# EAGLE library part MT29F1G08ABAEAWP-IT_E_TR (library MT29F1G08ABAEAWP-IT_E_TR)
IC FLASH 1GBIT 20NS 48TSOP Source: Datasheet <http://e2e.ti.com/cfs-file/__key/communityserver-discussions-components-files/639/3005.MT29F1G08ABBEAH4E.pdf>
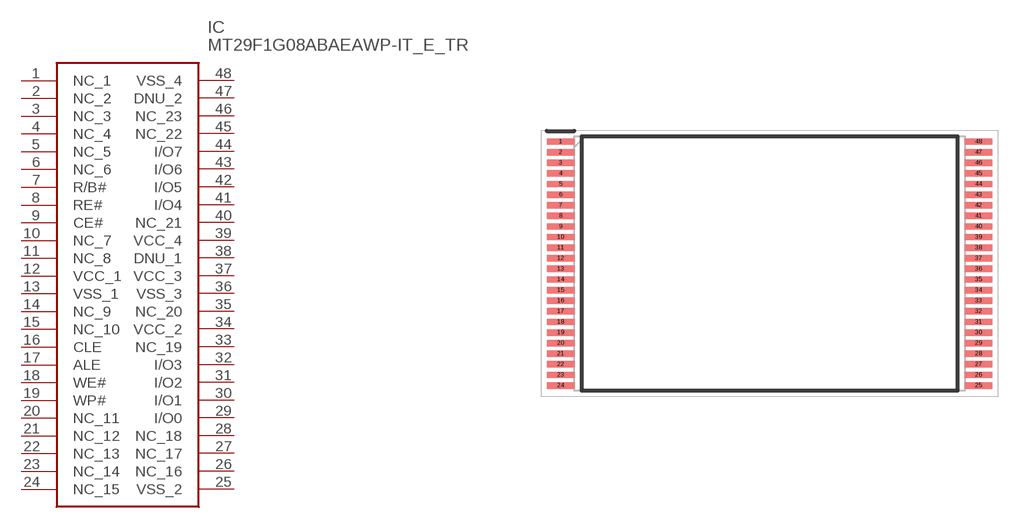
[diagram p0: symbol with the pads of SOP50P2000X120-48N; footprint SOP50P2000X120-48N]

Designator prefix IC

## MT29F1G08ABAEAWP-IT_E_TR (Description: IC FLASH 1GBIT 20NS 48TSOP; Height: 1.2mm; Manufacturer_Name: Micron; Manufacturer_Part_Number: MT29F1G08ABAEAWP-IT:E TR; Mouser_Part_Number: 340-186309-REEL; Mouser_Price-Stock: https://www.mouser.co.uk/ProductDetail/Micron/MT29F1G08ABAEAWP-ITE-TR?qs=taEdVNyAfdEKzDS6fUq3Ig%3D%3D)  [SOP50P2000X120-48N]
1  NC_1
2  NC_2
3  NC_3
4  NC_4
5  NC_5
6  NC_6
7  R/B#
8  RE#
9  CE#
10  NC_7
11  NC_8
12  VCC_1
13  VSS_1
14  NC_9
15  NC_10
16  CLE
17  ALE
18  WE#
19  WP#
20  NC_11
21  NC_12
22  NC_13
23  NC_14
24  NC_15
25  VSS_2
26  NC_16
27  NC_17
28  NC_18
29  I/O0
30  I/O1
31  I/O2
32  I/O3
33  NC_19
34  VCC_2
35  NC_20
36  VSS_3
37  VCC_3
38  DNU_1
39  VCC_4
40  NC_21
41  I/O4
42  I/O5
43  I/O6
44  I/O7
45  NC_22
46  NC_23
47  DNU_2
48  VSS_4

## Footprint SOP50P2000X120-48N (pad centres in mm)
48 PIN TSOP TYPE 1 CPL (PACKAGE WP)
smd 1.3 x 0.3: 1 -9.85,5.75; 2 -9.85,5.25; 3 -9.85,4.75; 4 -9.85,4.25; 5 -9.85,3.75; 6 -9.85,3.25; 7 -9.85,2.75; 8 -9.85,2.25; 9 -9.85,1.75; 10 -9.85,1.25; 11 -9.85,0.75; 12 -9.85,0.25; 13 -9.85,-0.25; 14 -9.85,-0.75; 15 -9.85,-1.25; 16 -9.85,-1.75; 17 -9.85,-2.25; 18 -9.85,-2.75; 19 -9.85,-3.25; 20 -9.85,-3.75; 21 -9.85,-4.25; 22 -9.85,-4.75; 23 -9.85,-5.25; 24 -9.85,-5.75; 25 9.85,-5.75; 26 9.85,-5.25; 27 9.85,-4.75; 28 9.85,-4.25; 29 9.85,-3.75; 30 9.85,-3.25; 31 9.85,-2.75; 32 9.85,-2.25; 33 9.85,-1.75; 34 9.85,-1.25; 35 9.85,-0.75; 36 9.85,-0.25; 37 9.85,0.25; 38 9.85,0.75; 39 9.85,1.25; 40 9.85,1.75; 41 9.85,2.25; 42 9.85,2.75; 43 9.85,3.25; 44 9.85,3.75; 45 9.85,4.25; 46 9.85,4.75; 47 9.85,5.25; 48 9.85,5.75